# EAGLE library part PQMC3-D12-D15-S (library KylePile)
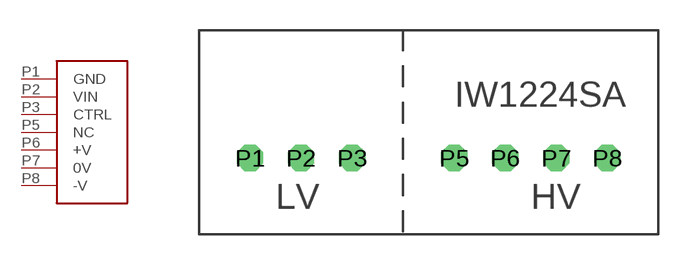
[diagram p16: symbol with the pads of 8-SIP; footprint 8-SIP]

Designator prefix -

## PQMC3-D12-D15-S  [8-SIP]
P1  GND
P2  VIN
P3  CTRL
P5  NC
P6  +V
P7  0V
P8  -V

## Footprint 8-SIP (pad centres in mm)
drill 0.8 octagon: P1 -8.89,0; P2 -6.35,0; P3 -3.81,0; P5 1.27,0; P6 3.81,0; P7 6.35,0; P8 8.89,0